# EAGLE library part PCM1803 (library SparkFun-IC-Conversion)
PCM1803ADB STEREO ADC 24-bit Datasheet SparkFun Products none stock = 62
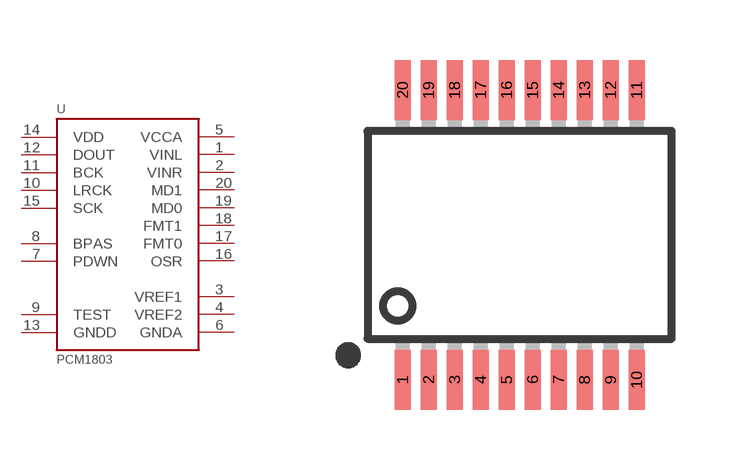
[diagram p9: symbol with the pads of SSOP20; footprint SSOP20]

Designator prefix U

## PCM1803SMD (PROD_ID: IC-09251; VALUE: PCM1803)  [SSOP20]
1  VINL
2  VINR
3  VREF1
4  VREF2
5  VCCA
6  GNDA
7  PDWN
8  BPAS
9  TEST
10  LRCK
11  BCK
12  DOUT
13  GNDD
14  VDD
15  SCK
16  OSR
17  FMT0
18  FMT1
19  MD0
20  MD1

## Footprint SSOP20 (pad centres in mm)
Shrink Small Outline Package package type SS
smd 0.4 x 1.5: 1 -2.925,-3.625; 2 -2.275,-3.625; 3 -1.625,-3.625; 4 -0.975,-3.625; 5 -0.325,-3.625; 6 0.325,-3.625; 7 0.975,-3.625; 8 1.625,-3.625; 9 2.275,-3.625; 10 2.925,-3.625; 11 2.925,3.625; 12 2.275,3.625; 13 1.625,3.625; 14 0.975,3.625; 15 0.325,3.625; 16 -0.325,3.625; 17 -0.975,3.625; 18 -1.625,3.625; 19 -2.275,3.625; 20 -2.925,3.625